# Altium footprint library Adams Altium Library.PcbLib: 250 footprints (part 7 of 16)
Each footprint in its own frame and in the unit in brackets; x right, y up, seen from the top. Pads: shape width x height; smd on the part's side, far side on the other; paste and mask are expansions set on the pad; w line width, h text height; cw(c..) or ccw(c..) is an arc to the next point about the centre after c.
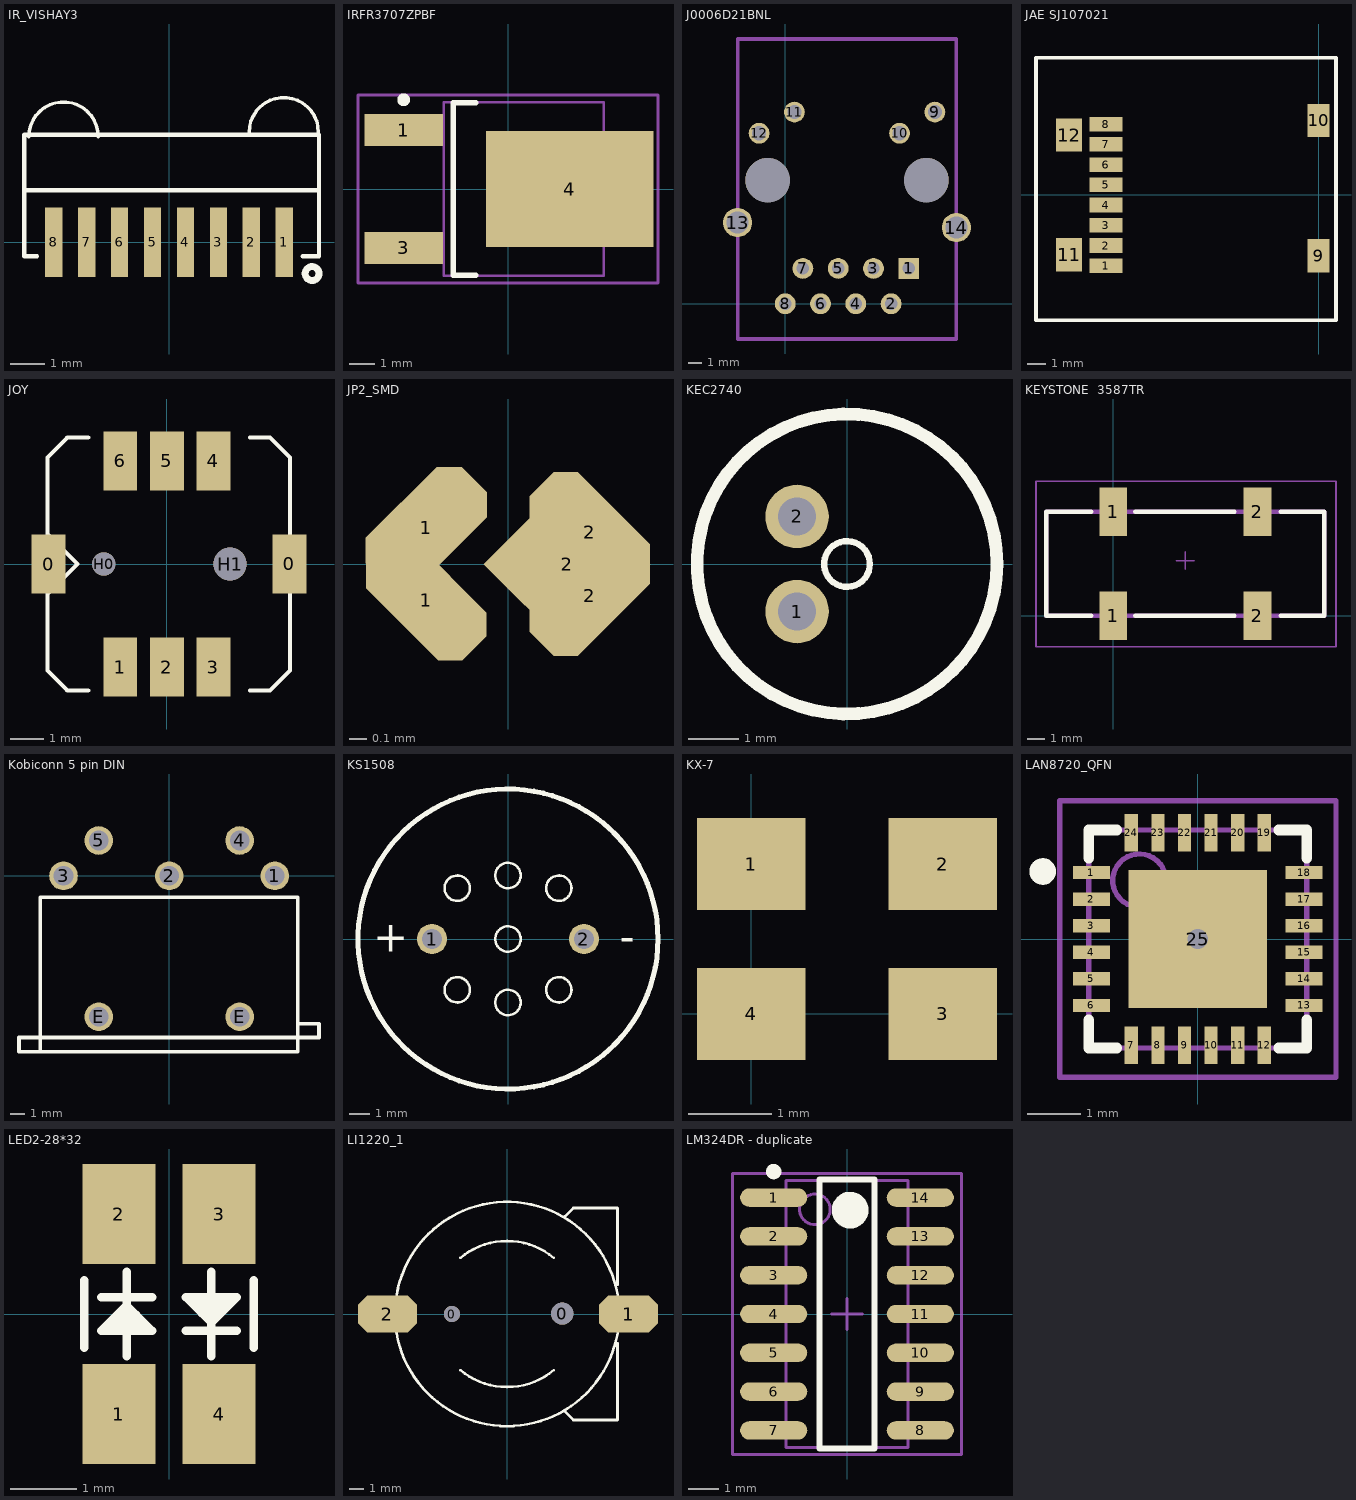
[diagram p6: the footprints below, top view; thin cyan lines are the x and y axes]

## IR_VISHAY3 [mm]
pads (8):
  rect 0.5x2 smd: 1(3.325,0) 2(2.375,0) 3(1.425,0) 4(0.475,0) 5(-0.475,0) 6(-1.425,0) 7(-2.375,0) 8(-3.325,0)
Top Overlay:
  circle w0.2: c4.125,-0.9 r0.2
  lines w0.1: -4.041,3.048 cw(c-3.041,3.048) -2.041,3.048 ; 2.309,3.175 cw(c3.309,3.175) 4.309,3.175
  lines w0.127: -4.175,1.5 4.325,1.5 ; -3.806,-0.4 -4.175,-0.4 -4.175,3.1 4.325,3.1 4.325,-0.4 3.852,-0.4

## IRFR3707ZPBF [mm] "Power FET"
height 2.39
pads (3):
  rect 3.05x1.25 smd: 1(-4.05,2.29) 3(-4.05,-2.29)
  rect 6.5x4.5 smd: 4(2.4,0)
Top Overlay:
  circle w0.25: c-4.05,3.465 r0.125
  lines w0.2: -1.25,-3.35 -2.125,-3.35 -2.125,3.35 -1.25,3.35
Mechanical 13:
  lines w0.1: -2.5,-3.375 -2.5,3.375 3.72,3.375 3.72,-3.375 -2.5,-3.375
Mechanical 15:
  lines w0.1: -0.5,0 0.5,0 ; 0,-0.5 0,0.5 ; -5.825,-3.65 -5.825,3.65 5.825,3.65 5.825,-3.65 -5.825,-3.65
3D body: height 2.39, standoff 0.05, extent -2.5,-3.375 3.72,3.375

## J0006D21BNL [mm] "RJ45 Integrated Magnetics and LEDs"
pads (16):
  rect 1.5x1.5 hole 0.89: 1(8.89,2.54)
  round 1.5 hole 0.89: 2(7.62,0) 3(6.35,2.54) 4(5.08,0) 5(3.81,2.54) 6(2.54,0) 7(1.27,2.54) 8(0,0)
  round 1.5 hole 1.02: 9(10.77,13.79) 10(8.23,12.27) 11(0.66,13.79) 12(-1.88,12.27)
  round 2.11 hole 1.6: 13(-3.43,5.84) 14(12.32,5.48)
  round 3.2 hole 3.2: ""(-1.27,8.89) ""(10.16,8.89)
Mechanical 1:
  lines w0.254: -3.43,-2.54 -3.43,19.05 12.32,19.05 12.32,-2.54 -3.43,-2.54

## JAE SJ107021 [mm] "MicroSD card socket"
height 1.9
pads (12):
  rect 1.8x0.8 smd: 1(-11.55,-3.85) 2(-11.55,-2.75) 3(-11.55,-1.65) 4(-11.55,-0.55) 5(-11.55,0.55) 6(-11.55,1.65) 7(-11.55,2.75) 8(-11.55,3.85)
  rect 1.2x1.8 smd: 9(0,-3.3) 10(0,4.05)
  rect 1.4x1.8 smd: 11(-13.55,-3.25) 12(-13.55,3.25)
Top Overlay:
  lines w0.2: -15.35,-6.8 0.95,-6.8 0.95,7.45 -15.35,7.45 -15.35,-6.8
3D body: height 2, standoff 0, extent -15.25,-6.75 1,7.5

## JOY [mm]
pads (10):
  rect 1.016x1.778 smd: 0(-3.556,0) 0(3.683,0) 1(-1.4,-3.1) 2(0,-3.1) 3(1.4,-3.1) 4(1.4,3.1) 5(0,3.1) 6(-1.4,3.1)
  round 0.7 hole 0.7 unplated: H0(-1.9,0)
  round 1 hole 1 unplated: H1(1.9,0)
Top Overlay:
  lines w0.127: -2.992,-3.8 -3.592,-3.2 -3.592,-0.9 -2.692,0 -3.592,0.9 -3.592,3.2 -2.992,3.8 ; -2.961,-3.8 -2.361,-3.8 ; -2.961,3.8 -2.361,3.8 ; 2.5,-3.8 3.1,-3.8 3.7,-3.2 3.7,2.6 3.7,3.2 3.1,3.8 2.5,3.8

## JP2_SMD [mil]
pads (5):
  oct 15x30 smd rot 45: 1(-18,-8) 2(18,7)
  oct 15.75x30 smd rot 135: 1(-18,8)
  rect 26x26 smd rot 45: 2(13,0)
  oct 15x30 smd rot 135: 2(18,-7)

## KEC2740 [mm]
pads (2):
  round 1.27 hole 0.762: 1(-1,-0.95) 2(-1,0.95)
Top Overlay:
  circle w0.127: c0,0 r0.458
  circle w0.254: c0,0 r3

## KEYSTONE  3587TR [mm] "KEYSTONE  3587TR  Automotive FUse Holder"
pads (4):
  rect 1.6x2.8 smd: 1(0,0) 1(0,6) 2(8.3,0) 2(8.3,6)
Top Overlay:
  lines w0.254: -1.27,0 -3.85,0 -3.85,6 -1.27,6 ; 1.27,0 6.985,0 ; 1.27,6 6.985,6 ; 9.652,0 12.15,0 12.15,6 9.652,6
Mechanical 1:
  lines w0.254: -3.85,0 -3.85,6 12.15,6 12.15,0 -3.85,0
Mechanical 15:
  lines w0.1: 3.65,3.175 4.65,3.175 ; 4.15,2.675 4.15,3.675 ; -4.445,-1.778 -4.445,7.747 12.827,7.747 12.827,-1.778 -4.445,-1.778
3D body: height 7.4, standoff 0, extent -3.81,0 12.192,5.969

## Kobiconn 5 pin DIN [mil]
pads (7):
  round 80 hole 55: 1(295.5,0) 2(0,0) 3(-295.5,0) 4(197,99) 5(-197,99) E(-197,-394) E(197,-394)
Top Overlay:
  lines w10: 359,-452 419,-452 419,-413 360,-413 360,-452 -420,-452 -420,-492 -360,-492 ; -360,-492 -360,-60 360,-60 360,-492 -360,-492

## KS1508 [mil]
pads (2):
  round 60 hole 40: 1(-149.61,0) 2(149.61,0)
Top Overlay:
  circle w5: c-100,100 r25
  circle w5: c100,100 r25
  circle w5: c-100,-100 r25
  circle w5: c100,-100 r25
  circle w5: c0,-125 r25
  circle w5: c0,125 r25
  circle w10: c0,0 r295.28
  circle w5: c0,0 r25
  text "+" at -265,-25 h60
  text "-" at 220,-25 h60

## KX-7 [mm] "Crystal Oscillator"
pads (4):
  rect 1.3x1.1 smd: 1(0,1.8) 2(2.3,1.8) 3(2.3,0) 4(0,0)

## LAN8720_QFN [mm] "QFN, 24-Leads, Body 4.1x4.1mm (max), Pitch 0.50mm, IPC Medium Density"
height 1
pads (25):
  rect 0.7x0.25 smd: 1(-2,1.25) 2(-2,0.75) 3(-2,0.25) 4(-2,-0.25) 5(-2,-0.75) 6(-2,-1.25) 13(2,-1.25) 14(2,-0.75) 15(2,-0.25) 16(2,0.25) 17(2,0.75) 18(2,1.25)
  rect 0.25x0.7 smd: 7(-1.25,-2) 8(-0.75,-2) 9(-0.25,-2) 10(0.25,-2) 11(0.75,-2) 12(1.25,-2) 19(1.25,2) 20(0.75,2) 21(0.25,2) 22(-0.25,2) 23(-0.75,2) 24(-1.25,2)
  rect 2.6x2.6 smd: 25(0,0)
via 0,0 diameter 0.635 hole 0.381
Top Overlay:
  circle w0.25: c-2.919,1.27 r0.125
  lines w0.2: -2.05,-1.525 -2.05,-2.05 -1.525,-2.05 ; -2.05,1.525 -2.05,2.05 -1.525,2.05 ; 1.525,-2.05 2.05,-2.05 2.05,-1.525 ; 1.525,2.05 2.05,2.05 2.05,1.525
Mechanical 13:
  circle w0.1: c-1.1,1.1 r0.5
  lines w0.1: -2.05,-2.05 -2.05,2.05 2.05,2.05 2.05,-2.05 -2.05,-2.05
Mechanical 15:
  lines w0.1: -0.5,0 0.5,0 ; 0,-0.5 0,0.5 ; -2.6,-2.6 -2.6,2.6 2.6,2.6 2.6,-2.6 -2.6,-2.6
3D body: height 1, standoff 0, extent -2.05,-2.05 2.05,2.05

## LED2-28*32 [mm]
pads (4):
  rect 1.1x1.5 smd: 1(-0.75,-1.5) 2(-0.75,1.5) 3(0.75,1.5) 4(0.75,-1.5)
Top Overlay:
  lines w0.127: -1.27,-0.508 -1.27,0.508 ; -1.016,0.254 -0.254,0.254 ; -0.839,-0.077 -0.431,-0.077 -0.431,-0.177 -0.812,-0.177 ; -0.777,-0.015 -0.493,-0.015 ; -0.635,-0.635 -0.635,0.635 ; 0.254,-0.254 1.016,-0.254 ; 0.493,0.015 0.777,0.015 ; 0.635,-0.635 0.635,0.635 ; 0.812,0.177 0.431,0.177 0.431,0.077 0.839,0.077 ; 1.27,-0.508 1.27,0.508 ; -1.016,-0.254 -0.635,0.127 -0.254,-0.254 -0.889,-0.254 -1.016,-0.254 ; 0.254,0.254 0.889,0.254 1.016,0.254 0.635,-0.127 0.254,0.254

## LI1220_1 [mm]
pads (4):
  round 1.1 hole 1.1 unplated: 0(-3.75,0)
  round 1.5 hole 1.5 unplated: 0(3.75,0.025)
  oct 4x2.5 smd: 1(8.255,0) 2(-8.128,0)
Top Overlay:
  lines w0.178: -7.574,-0.833 ccw(c0,0) 0,-7.62 ccw(c0,0) 7.574,-0.833 ; -7.574,0.833 cw(c0,0) 7.574,0.833 ; -3.172,-3.812 ccw(c0,0) 3.169,-3.815 ; -3.172,3.812 cw(c0,0) 3.175,3.81 ; 3.9,-6.6 4.5,-7.2 7.5,-7.2 7.5,-2 ; 3.925,6.625 4.5,7.2 7.5,7.2 7.5,2

## LM324DR [mm] "LM324DR OpAmp"

## LM324DR - duplicate [mm] "LM324DR OPAMP"
height 1.75
pads (14):
  oval 2.2x0.6 smd: 1(-2.4,3.81) 2(-2.4,2.54) 3(-2.4,1.27) 4(-2.4,0) 5(-2.4,-1.27) 6(-2.4,-2.54) 7(-2.4,-3.81) 8(2.4,-3.81) 9(2.4,-2.54) 10(2.4,-1.27) 11(2.4,0) 12(2.4,1.27) 13(2.4,2.54) 14(2.4,3.81)
Top Overlay:
  circle w0.25: c-2.4,4.66 r0.125
  circle w0.6: c0.1,3.4 r0.3
  lines w0.2: -0.9,-4.4 -0.9,4.4 0.9,4.4 0.9,-4.4 -0.9,-4.4
Mechanical 13:
  circle w0.1: c-1.05,3.425 r0.5
  lines w0.1: -2,-4.375 -2,4.375 2,4.375 2,-4.375 -2,-4.375
Mechanical 15:
  lines w0.1: -0.5,0 0.5,0 ; 0,-0.5 0,0.5 ; -3.75,-4.6 -3.75,4.6 3.75,4.6 3.75,-4.6 -3.75,-4.6
3D body: height 1.75, standoff 0.25, extent -2,-4.375 2,4.375